# Altium schematic symbol library Zener.Schlib: 1 symbol
Pins are listed as number, name and electrical type; pins without a type are passive.

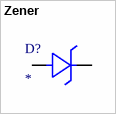
[diagram p0: symbol Zener]

## Zener
designator D?
Value: *
pins: 1 K, 2 A